# Altium footprint library 电容.PcbLib: 174 footprints (part 9 of 11)
Each footprint in its own frame and in the unit in brackets; x right, y up, seen from the top. Pads: shape width x height; smd on the part's side, far side on the other; paste and mask are expansions set on the pad; w line width, h text height; cw(c..) or ccw(c..) is an arc to the next point about the centre after c.
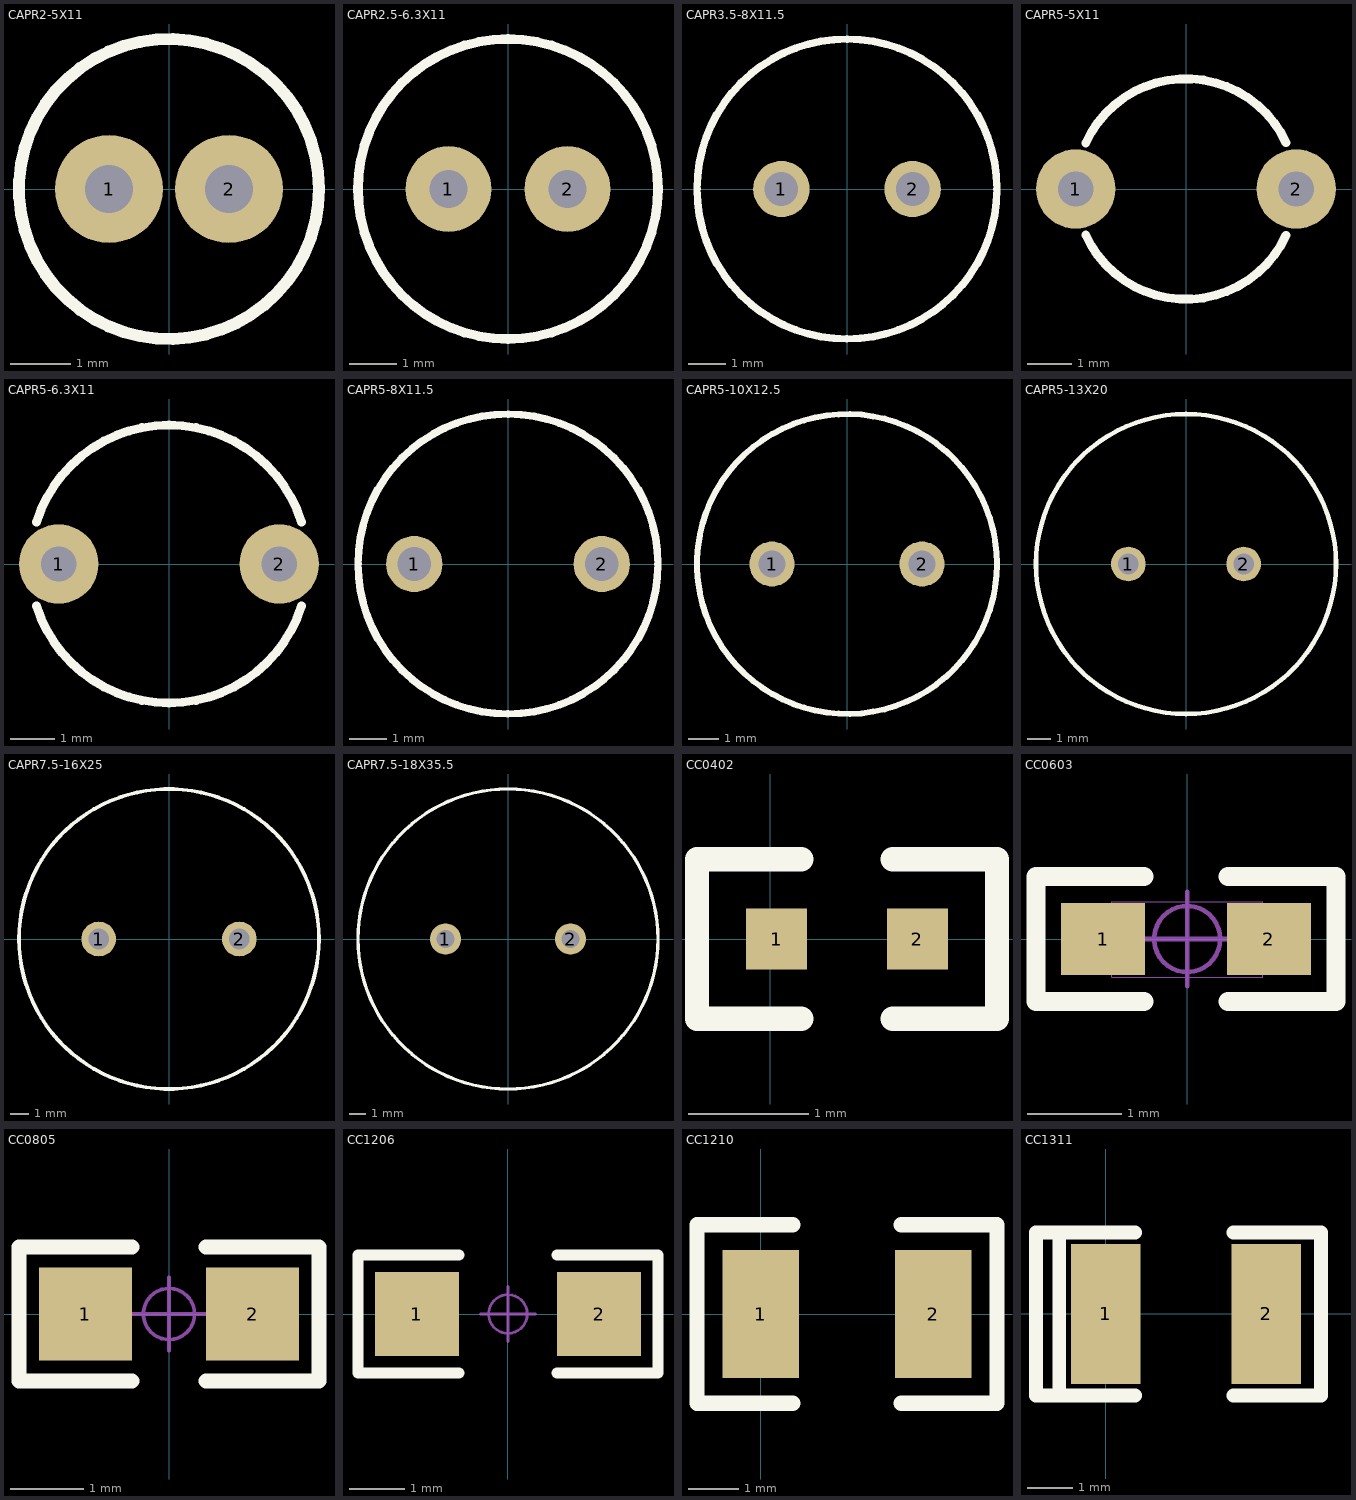
[diagram p8: the footprints below, top view; thin cyan lines are the x and y axes]

## CAPR2-5X11 [mm]
pads (2):
  round 1.8 hole 0.8: 1(-1,0) 2(1,0)
Top Overlay:
  circle w0.2: c0,0 r2.5
3D body: height 11, standoff 0.2, extent -2.499,-2.499 2.499,2.499

## CAPR2.5-6.3X11 [mm]
pads (2):
  round 1.8 hole 0.8: 1(-1.25,0) 2(1.25,0)
Top Overlay:
  circle w0.2: c0,0 r3.15
3D body: height 11, standoff 0.2, extent -3.149,-3.149 3.149,3.149

## CAPR3.5-8X11.5 [mm]
pads (2):
  round 1.5 hole 0.9: 1(-1.75,0) 2(1.75,0)
Top Overlay:
  circle w0.2: c0,0 r4
3D body: height 11.5, standoff 0.2, extent -3.999,-3.999 3.999,3.999

## CAPR5-5X11 [mm]
pads (2):
  round 1.8 hole 0.8: 1(-2.5,0) 2(2.5,0)
Top Overlay:
  lines w0.2: -2.274,-1.04 ccw(c0,0) 2.269,-1.05 ; -2.274,1.04 cw(c0,0) 2.269,1.05

## CAPR5-6.3X11 [mm]
pads (2):
  round 1.8 hole 0.8: 1(-2.5,0) 2(2.5,0)
Top Overlay:
  lines w0.2: -3.003,-0.95 ccw(c0,0) 3.003,-0.95 ; -3.003,0.95 cw(c0,0) 3.003,0.95

## CAPR5-8X11.5 [mm]
pads (2):
  round 1.5 hole 0.9: 1(-2.5,0) 2(2.5,0)
Top Overlay:
  circle w0.2: c0,0 r4
3D body: height 11.5, standoff 0.2, extent -3.999,-3.999 3.999,3.999

## CAPR5-10X12.5 [mm]
pads (2):
  round 1.5 hole 0.9: 1(-2.5,0) 2(2.5,0)
Top Overlay:
  circle w0.2: c0,0 r5
3D body: height 12.5, standoff 0.2, extent -4.999,-4.999 4.999,4.999

## CAPR5-13X20 [mm]
pads (2):
  round 1.5 hole 0.9: 1(-2.5,0) 2(2.5,0)
Top Overlay:
  circle w0.2: c0,0 r6.5
3D body: height 20, standoff 0.2, extent -6.499,-6.499 6.499,6.499

## CAPR7.5-16X25 [mm]
pads (2):
  round 1.85 hole 1.1: 1(-3.75,0) 2(3.75,0)
Top Overlay:
  circle w0.2: c0,0 r8
3D body: height 16, standoff 0.2, extent -8,-8 8,8

## CAPR7.5-18X35.5 [mm]
pads (2):
  round 1.85 hole 1.1: 1(-3.75,0) 2(3.75,0)
Top Overlay:
  circle w0.2: c0,0 r9
3D body: height 35.5, standoff 0.2, extent -8.999,-8.999 8.999,8.999

## CC0402 [mil]
pads (2):
  rect 20x20 smd: 1(2,0) 2(48,0)
Top Overlay:
  lines w8: 10,-26 -24,-26 -24,26 10,26 ; 40,-26 74,-26 74,26 40,26
3D body "R0402.STEP": height 13.78, standoff 0, extent 5.31,-9.84 44.68,9.84

## CC0603 [mil] "无极性贴片电容"
height 400
pads (2):
  rect 35x30 smd: 1(-35,0) 2(34,0)
Top Overlay:
  lines w8: -18,-26 -63,-26 -63,26 -18,26 ; 17,-26 62,-26 62,26 17,26
Mechanical 13:
  lines w0.39: -31.5,-16 -31.5,15.5 31.5,15.5 31.5,-16 -31.5,-16
Mechanical 15:
  circle w1.97: c0,0 r13.78
  lines w1.97: -19.68,0 19.69,0 ; 0,-19.69 0,19.68
3D body "C 0603.STEP": height 31.89, standoff -0.39, extent -31.5,-16.14 31.5,16.14

## CC0805 [mil] "无极性贴片电容"
height 19.68
pads (2):
  rect 50x50 smd: 1(-45,0) 2(45,0)
Top Overlay:
  lines w8: -20,-36 -80.71,-36 -80.71,36 -20,36 ; 20,-36 80.71,-36 80.71,36 20,36
Mechanical 15:
  circle w1.97: c0,0 r13.78
  lines w1.97: -19.69,0 19.68,0 ; 0,-19.69 0,19.68
3D body "C 0805.STEP": height 20.08, standoff -0.39, extent -39.37,-24.02 39.37,24.02

## CC1206 [mil] "无极性贴片电容"
height 400
pads (2):
  rect 60x60 smd: 1(-65,0) 2(65,0)
Top Overlay:
  lines w8: -35,-42 -107,-42 -107,42 -35,42 ; 35,-42 107,-42 107,42 35,42
Mechanical 15:
  circle w1.97: c0,0 r13.78
  lines w1.97: -19.68,0 19.69,0 ; 0,-19.68 0,19.69
3D body "C 1206.STEP": height 47.64, standoff -0.39, extent -62.99,-31.89 62.99,31.89

## CC1210 [mil]
pads (2):
  rect 60x100 smd: 1(0,0) 2(135,0)
Top Overlay:
  lines w12: 25,-70 -50,-70 -50,70 25,70 ; 110,-70 185,-70 185,70 110,70
3D body "CAPC3225(1210).STEP": height 51.18, standoff 0, extent 2,-49.22 127.99,49.21

## CC1311 [mil]
pads (2):
  rect 60x120 smd: 1(0,0) 2(138,0)
Top Overlay:
  lines w11.81: -60,-70 -60,70 ; -40,-70 -40,70
  lines w12: -60,-70 25,-70 ; -60,70 25,70 ; 110,-70 185,-70 185,70 110,70